# EAGLE library part AMG8831 (library AKA_test)
Infrared Array Sensor Grid-EYE (AMG88) High Precision Infrared Array Sensor based on Advanced MEMS Technology I2C interface This outline is good for all models AMG88-x-y x = 3 or 5, indicating supply voltage y = 1 or 2; 1 is high-gain, 2 is low-gain See the datasheet from Panasonic here <http://pewa.panasonic.com/assets/pcsd/catalog/grid-eye-catalog.pdf>
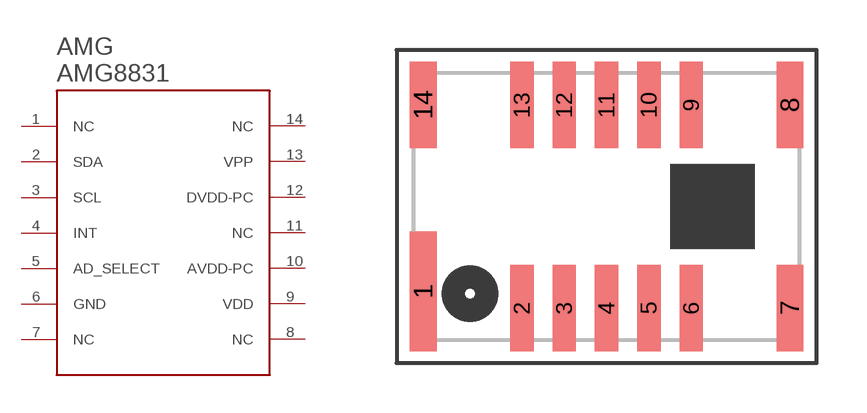
[diagram p4: symbol with the pads of AMG8831; footprint AMG8831]

Designator prefix AMG

## AMG8831  [AMG8831]
1  NC  nc
2  SDA
3  SCL
4  INT
5  AD_SELECT
6  GND  pwr
7  NC  nc
8  NC  nc
9  VDD  pwr
10  AVDD-PC  pwr
11  NC  nc
12  DVDD-PC  pwr
13  VPP  pwr
14  NC  nc

## Footprint AMG8831 (pad centres in mm)
smd 0.8 x 3.6: 1 -5.5,-2.55
smd 0.7 x 2.6: 2 -2.54,-3.05; 3 -1.27,-3.05; 4 0,-3.05; 5 1.27,-3.05; 6 2.54,-3.05; 9 2.54,3.05; 10 1.27,3.05; 11 0,3.05; 12 -1.27,3.05; 13 -2.54,3.05
smd 0.8 x 2.6: 7 5.5,-3.05; 8 5.5,3.05; 14 -5.5,3.05